# Altium schematic symbol library OpAmps.SchLib: 5 symbols
Pins are listed as number, name and electrical type; pins without a type are passive.

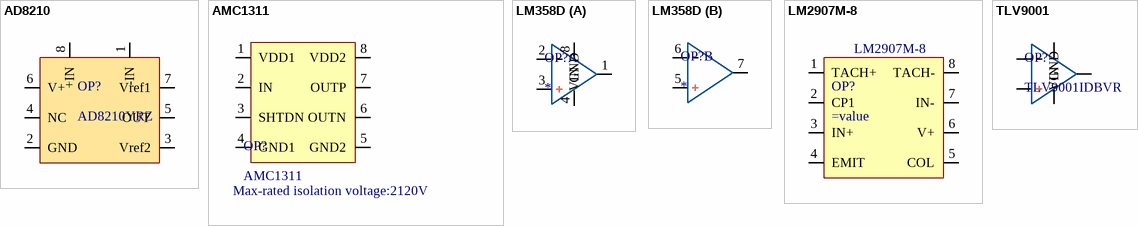
[diagram p0: symbols AD8210 to TLV9001]

## AD8210
designator OP?, comment AD8210YRZ
High Voltage, Bidirectional Current Shunt Monitor; Type: AD8210YRZ
footprint SOIC127P600X175-8N (SOIC, 8-Leads, Body 4.90x3.89mm, Pitch 1.27mm, IPC Medium Density)
pins: 1 -IN, 2 GND, 3 Vref2, 4 NC, 5 OUT, 6 V+, 7 Vref1, 8 +IN

## AMC1311
designator OP?  Max-rated isolation voltage: Max-rated isolation voltage:2120V
AMC1311x High-Impedance, 2-V Input, Reinforced Isolated Amplifiers; Type: AMC1311
footprint DWV0008A
pins: 1 VDD1, 2 IN, 3 SHTDN, 4 GND1, 5 GND2, 6 OUTN, 7 OUTP, 8 VDD2

## LM358D
designator OP?
Integrated Circuit; Manufacturer_Name: Texas Instruments; Manufacturer_Part_Number: LM358D; Datasheet Link: http://www.ti.com/lit/ds/symlink/lm358.pdf; Height: 1.75mm; Mouser Part Number: 595-LM358D; Mouser Price/Stock: https://www.mouser.co.uk/ProductDetail/Texas-Instruments/LM358D?qs=X1HXWTtiZ0RJBM%2FvBfVo8g%3D%3D; Arrow Part Number: LM358D; Arrow Price/Stock: https://www.arrow.com/en/products/lm358d/texas-instruments?region=nac
footprint SOIC127P600X175-8N (SOIC, 8-Leads, Body 4.90x3.89mm, Pitch 1.27mm, IPC Medium Density)
part A pins: 1 OUT1, 2 IN1-, 3 IN1+, 4 GND, 8 VIN
part B pins: 5 IN2+, 6 IN2-, 7 OUT2

## LM2907M-8
designator OP?  Supplier Part Number 1: LM2907M-8
Frequency to Voltage Converter for ground or supply referred load up to 50-mA 8-SOIC -40 to 85; Manufacturer: TI National Semiconductor; Max Supply Voltage: 28V; Operating Supply Voltage: 12V; Min Supply Voltage: 6V; Frequency: 10kHz; Supply Type: Single; Linearity: 0.03%; Output Voltage: 8.3V; Supplier 1: Arrow Electronics; Manufacturer Part Number: LM2907M-8; RoHS: No; Category: Amplifiers - Op Amps, Buffer, Instrumentation; Stock 1: 19; Pricing 1: 1=1.61900, 10=1.57900, 25=1.55500, 100=1.49600, 250=1.47100, 500=1.42200 (USD); Mount: Surface Mount; Case/Package: SOIC; Number of Pins: 8; Weight: 0.005044oz; Min Operating Temperature: -40°C; Max Operating Temperature: 85°C; Packaging: Rail/Tube; Package Quantity: 95; Max Frequency: 10kHz; Series: -; Length: 4.9mm; Width: 3.9mm; Height: 1.45mm; Radiation Hardening: No; REACH SVHC: No SVHC; Lead Free: Contains Lead; RoHS Compliant: No; ComponentLink1URL: https://datasheet.ciiva.com/6598/lm2907-n-6598248.pdf?src-supplier=Digi-Key; ComponentLink1Description: https://datasheet.ciiva.com/6598/lm2907-n-6598248.pdf?src-supplier=Digi-Key
footprint SOIC127P600X175-8N (SOIC, 8-Leads, Body 4.90x3.89mm, Pitch 1.27mm, IPC Medium Density)
pins: 1 TACH+, 2 CP1, 3 IN+, 4 EMIT, 5 COL, 6 V+, 7 IN-, 8 TACH-

## TLV9001
designator OP?, comment TLV9001IDBVR
TLV900x Low-Power, RRIO, 1-MHz Operational Amplifier for Cost-Sensitive Systems; Type: TLV9001IDBVR
footprint SOT-23-5_DBV5
pins: 1 OUT, 2 GND, 3 IN+, 4 IN-, 5 VIN